# Altium footprint library inductor-smd.PcbLib: 5 footprints
Each footprint in its own frame and in the unit in brackets; x right, y up, seen from the top. Pads: shape width x height; smd on the part's side, far side on the other; paste and mask are expansions set on the pad; w line width, h text height; cw(c..) or ccw(c..) is an arc to the next point about the centre after c.
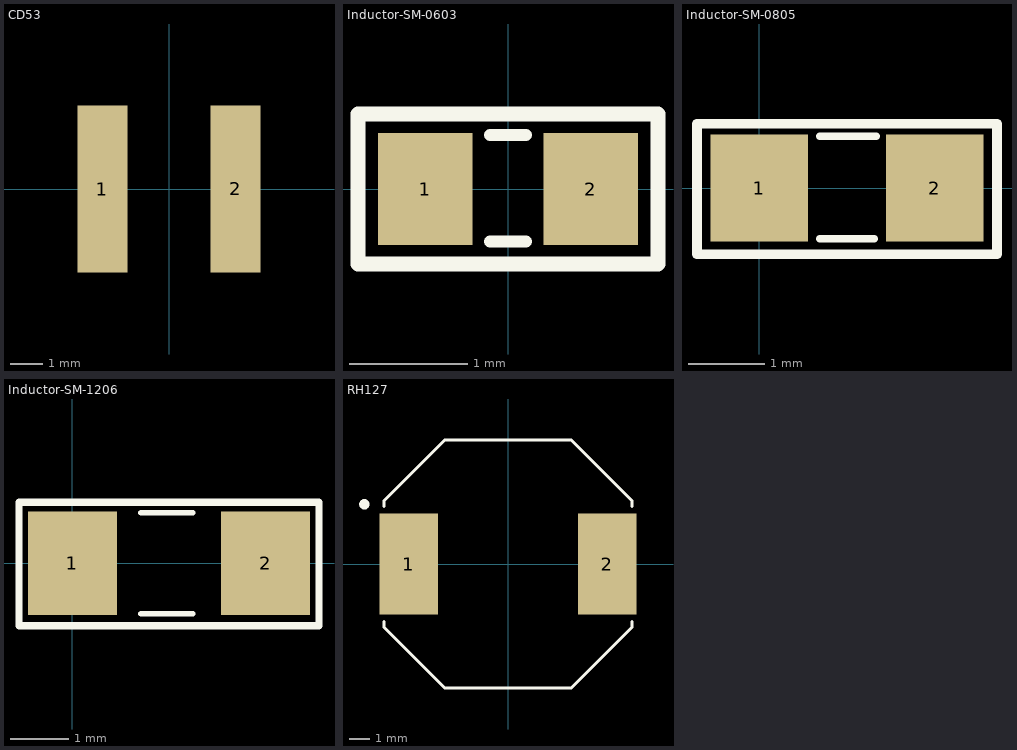
[diagram p0: the footprints below, top view; thin cyan lines are the x and y axes]

## CD53 [mil]
pads (2):
  rect 60x200 smd: 1(-80,0) 2(80,0.01)
3D body "SMD_Inductor_CD54.step": height 176.97, standoff -0.39, extent -114.17,-102.36 114.18,102.37

## Inductor-SM-0603 [mm] "SMD Ceramic Capacitor Size 0603"
height 0.6
pads (2):
  rect 0.8x0.95 smd: 1(-0.7,0) 2(0.7,0)
Top Overlay:
  lines w0.102: -0.152,-0.443 0.152,-0.443 ; -0.152,0.457 0.152,0.457
  lines w0.127: -1.27,-0.635 1.27,-0.635 1.27,0.635 -1.27,0.635 -1.27,-0.635
3D body "INDC-0603.stp": height 0.95, standoff 0, extent -0.875,-0.475 0.875,0.475

## Inductor-SM-0805 [mil]
pads (2):
  rect 50x55 smd: 1(0,0) 2(90,0)
Top Overlay:
  lines w4: 31,-26 59,-26 ; 31,26.58 60,26.58
  lines w5: -32,-34 122,-34 122,33 -32,33 -32,-34
3D body "INDC-0805-T1.05.stp": height 41.34, standoff 0, extent 1.7,-28.53 88.31,28.55

## Inductor-SM-1206 [mil]
pads (2):
  rect 60x70 smd: 1(0,0) 2(130,0)
Top Overlay:
  lines w4: 46,-34 81,-34 ; 46,34 81,34
  lines w5: -36,-42 166,-42 166,41 -36,41 -36,-42
3D body "LQH31xx_03.stp": height 78.74, standoff 0, extent -2.89,-35.43 134.9,35.44

## RH127 [mil]
pads (2):
  rect 114x197 smd: 1(-192.91,0) 2(192.91,0)
Top Overlay:
  circle w9.84: c-279,116 r5.1
  lines w6: -241,-111.6 -241,-123 -123,-241 123,-241 241,-123 241,-111.6 ; -241,111.6 -241,123 -123,241 123,241 241,123 241,111.6
3D body: height 10, standoff 0, extent 0,0 10,10
3D body "INDP120120X80N.step": height 318.9, standoff 0, extent -235.16,-236.22 245.16,236.22